# Altium schematic symbol library EC1110120201.SchLib: 1 symbol
Pins are listed as number, name and electrical type; pins without a type are passive.

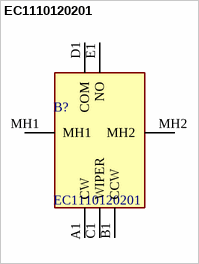
[diagram p0: symbol EC1110120201]

## EC1110120201
designator B?
11mm Metal Shaft Type Encoder 5-Pin Tray - Trays; Manufacturer_Name: ALPS Electric; Geometry.Height: 25mm; Mouser Part Number: 688-EC1110120201; Mouser Price/Stock: https://www.mouser.co.uk/ProductDetail/Alps-Alpine/EC1110120201?qs=6EGMNY9ZYDQZuRRlni99ZQ%3D%3D; Manufacturer_Part_Number: EC1110120201; Datasheet Link: https://tech.alpsalpine.com/e/products/detail/EC1110120201/
footprint EC1110120201
pins: A1 CW, B1 CCW, C1 WIPER, D1 COM, E1 NO, MH1, MH2